# Altium schematic symbol library SnapEDAsch.SchLib: 1 symbol
Pins are listed as number, name and electrical type; pins without a type are passive.

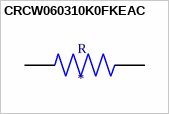
[diagram p0: symbol CRCW060310K0FKEAC]

## CRCW060310K0FKEAC
designator R
10 kOhms Â±1% 0.1W, 1/10W Chip Resistor 0603 (1608 Metric) Thick Film; MF: Vishay Dale; MP: CRCW060310K0FKEAC; Availability: Unavailable; SnapEDA_Link: https://www.snapeda.com/parts/CRCW060310K0FKEAC/Vishay%20Dale/view-part/510932/?ref=snap; Price: None; Package: 1608 Rohm Semiconductor; Value: *
footprint RESC1608X55N
pins: 1, 2